# EAGLE library part 0475710001 (library 0475710001)
Conn Micro SD Card HDR 8 POS 1.1mm Solder RA SMD Embossed T/R 0.5A/Contact
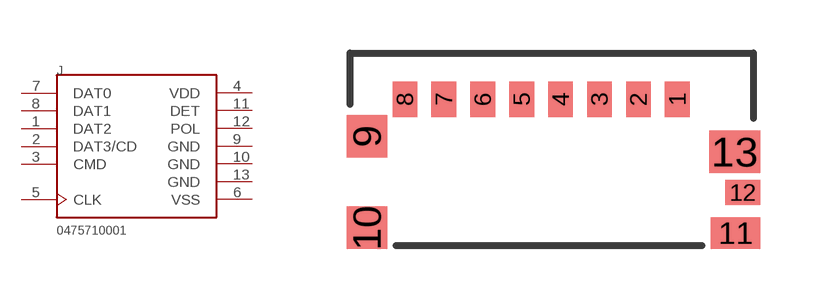
[diagram p0: symbol with the pads of MOLEX_0475710001; footprint MOLEX_0475710001]

Designator prefix J

## 0475710001 (Availability: Unavailable; Description: Conn Micro SD Card HDR 8 POS 1.1mm Solder RA SMD Embossed T/R 0.5A/Contact; MF: Molex; MP: 0475710001; Package: None; Price: None)  [MOLEX_0475710001]
1  DAT2
2  DAT3/CD
3  CMD
4  VDD  pwr
5  CLK
6  VSS  pwr
7  DAT0
8  DAT1
9  GND  pwr
10  GND  pwr
11  DET  pas
12  POL  pas
13  GND  pwr

## Footprint MOLEX_0475710001 (pad centres in mm)
smd 0.7 x 1: 1 3.55,1.415; 2 2.45,1.415; 3 1.35,1.415; 4 0.25,1.415; 5 -0.85,1.415; 6 -1.95,1.415; 7 -3.05,1.415; 8 -4.15,1.415
smd 1.15 x 1.2: 9 -5.225,0.365; 10 -5.225,-2.225
smd 1.4 x 0.9: 11 5.2,-2.375
smd 1 x 0.7: 12 5.4,-1.225
smd 1.45 x 1.2: 13 5.175,-0.075